# Altium schematic symbol library IR.SchLib: 1 symbol
Pins are listed as number, name and electrical type; pins without a type are passive.

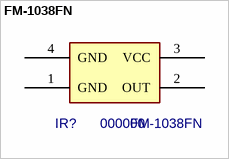
[diagram p0: symbol FM-1038FN]

## FM-1038FN
designator IR?, comment 000000  value FM-1038FN
PN: 000000; ExtraInfo: *; Package: *
footprint FM1038FN5CN
pins: 1 GND (power), 2 OUT, 3 VCC (power), 4 GND (power)